# Altium integrated library TI Interface Display.IntLib: 133 symbols (part 16 of 16)
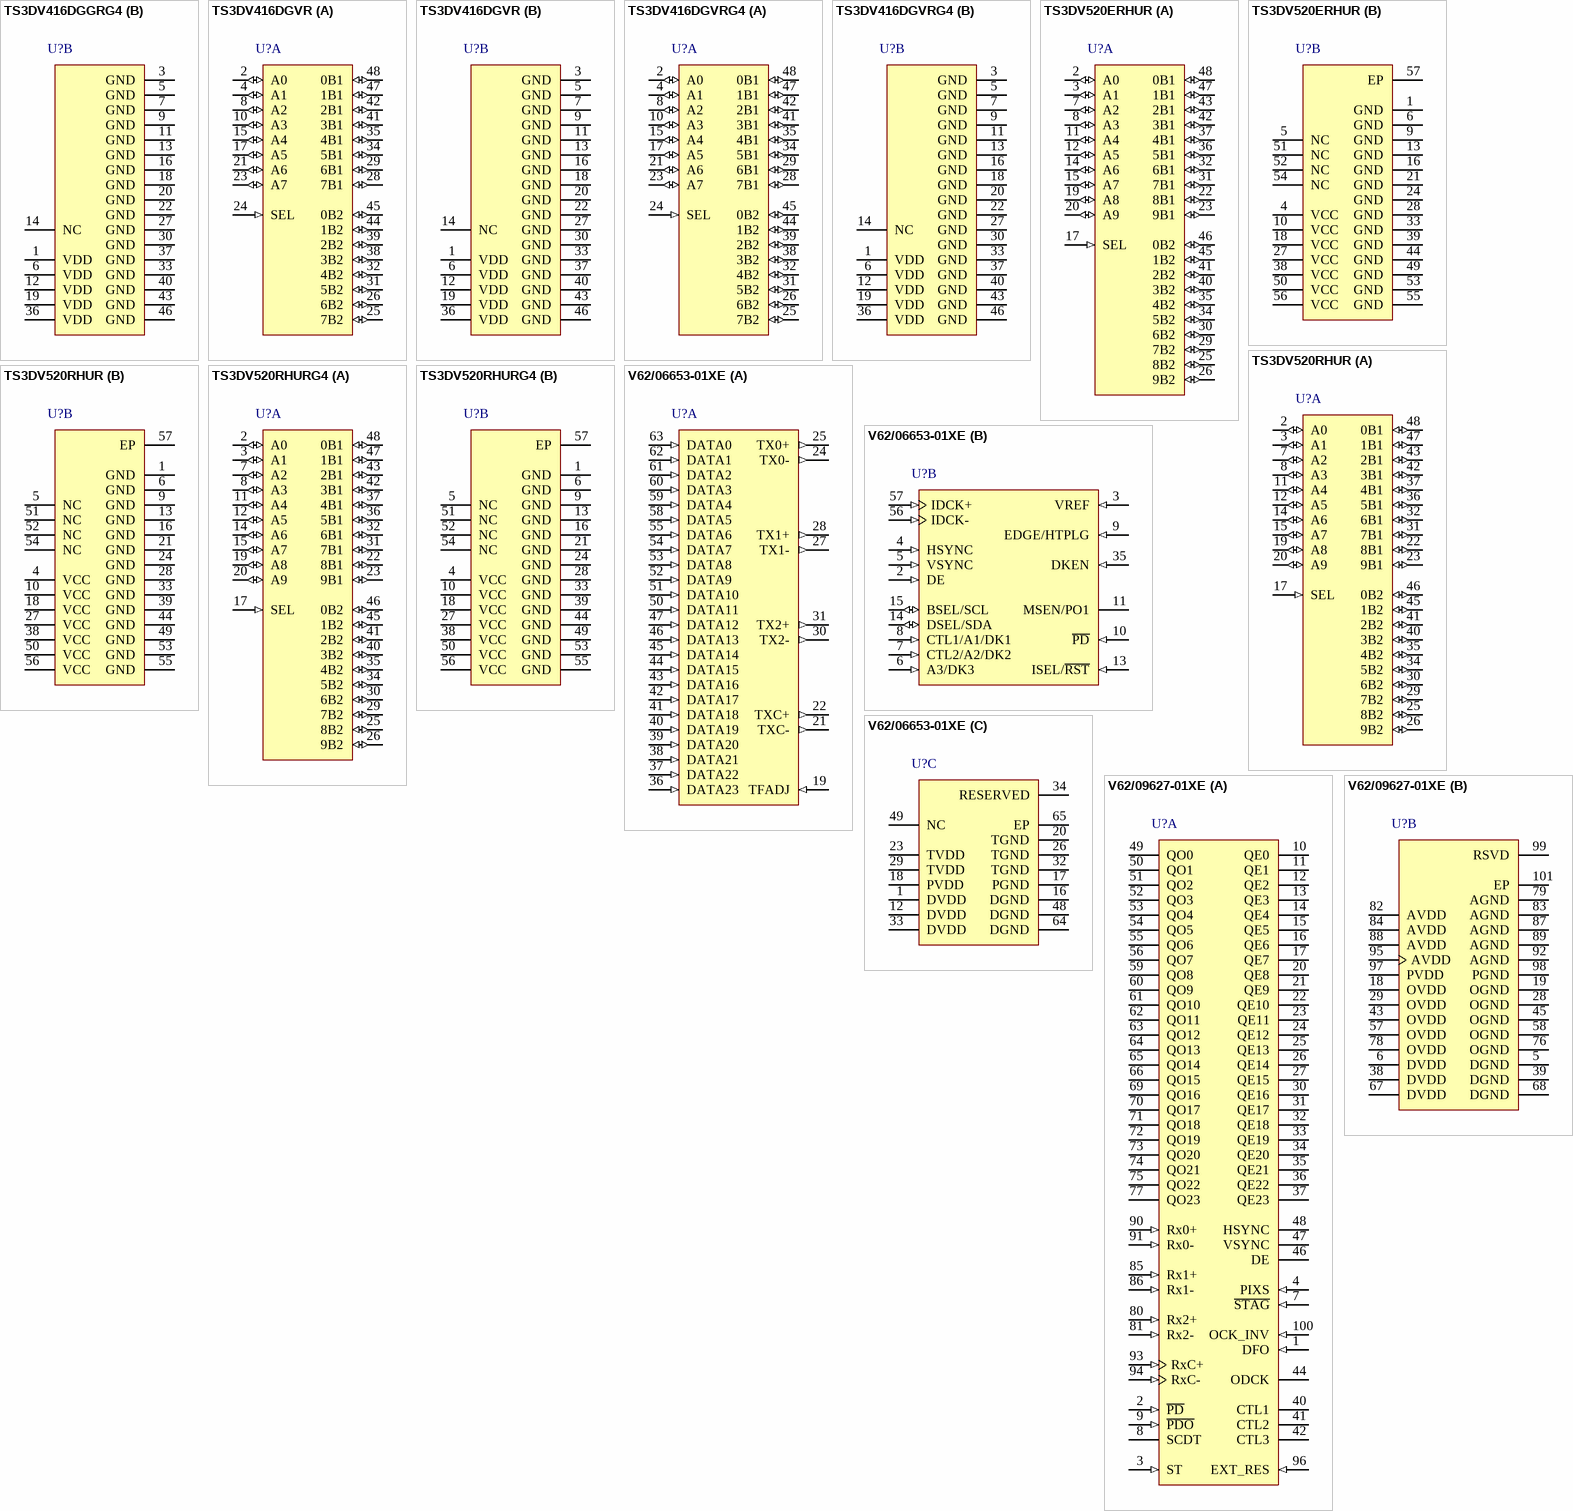
[diagram p29: symbols TS3DV416DGGRG4 to V62/09627-01XE]

## TS3DV416DGVRG4
designator U?
4-Channel Differential 8:16 Multiplexer Switch for DVI / HDMI Applications, -40 to +85 degC, 48-pin TVSOP (DGV), Green (RoHS & no Sb/Br); Manufacturer: Texas Instruments; PartNumber: TS3DV416DGVRG4; SubFamily: DVI/HDMI Repeater/Switch; DatasheetVersion: SCDS198C; PackageVersion: revE, Aug-2000; PackageReference: DGV48; PackageDescription: 48-Pin Thin Shrink Small Outline Package 0.4 mm Pitch; Supplier 1: Digi-Key; Supplier Part Number 1: TS3DV416DGVRG4-ND; Supplier 2: Newark; Supplier Part Number 2: 46M9584; Supplier 3: Mouser; Supplier Part Number 3: 595-TS3DV416DGVRG4; Eco-Plan: Green (RoHS & no Sb/Br); Mounting Technology: Surface Mount; Code_JEDEC: MO-153; ComponentLink1Description: Datasheet; ComponentLink1URL: http://www.ti.com/general/docs/lit/getliterature.tsp?genericPartNumber=TS3DV416&fileType=pdf; ComponentLink2Description: URL Link1; ComponentLink2URL: SamplesURL:http://www.ti.com/product/ts3dv416#samples
footprint DGV48_N (TSSOP, 48-Leads, Body 9.7x4.4mm, Pitch 0.4mm, IPC Medium Density)
footprint DGV48_L (TSSOP, 48-Leads, Body 9.7x4.4mm, Pitch 0.4mm, IPC High Density)
footprint DGV48_M (TSSOP, 48-Leads, Body 9.7x4.4mm, Pitch 0.4mm, IPC Low Density)
part A pins: 2 A0 (io) "Data I/O", 4 A1 (io) "Data I/O", 8 A2 (io) "Data I/O", 10 A3 (io) "Data I/O", 15 A4 (io) "Data I/O", 17 A5 (io) "Data I/O", 21 A6 (io) "Data I/O", 23 A7 (io) "Data I/O", 24 SEL (in) "Select input", 25 7B2 (io) "Data I/O", 26 6B2 (io) "Data I/O", 28 7B1 (io) "Data I/O", 29 6B1 (io) "Data I/O", 31 5B2 (io) "Data I/O", 32 4B2 (io) "Data I/O", 34 5B1 (io) "Data I/O", 35 4B1 (io) "Data I/O", 38 3B2 (io) "Data I/O", 39 2B2 (io) "Data I/O", 41 3B1 (io) "Data I/O", 42 2B1 (io) "Data I/O", 44 1B2 (io) "Data I/O", 45 0B2 (io) "Data I/O", 47 1B1 (io) "Data I/O", 48 0B1 (io) "Data I/O"
part B pins: 1 VDD (power), 3 GND (power) "Ground", 5 GND (power) "Ground", 6 VDD (power), 7 GND (power) "Ground", 9 GND (power) "Ground", 11 GND (power) "Ground", 12 VDD (power), 13 GND (power) "Ground", 14 NC "No Connect", 16 GND (power) "Ground", 18 GND (power) "Ground", 19 VDD (power), 20 GND (power) "Ground", 22 GND (power) "Ground", 27 GND (power) "Ground", 30 GND (power) "Ground", 33 GND (power) "Ground", 36 VDD (power), 37 GND (power) "Ground", 40 GND (power) "Ground", 43 GND (power) "Ground", 46 GND (power) "Ground"

## TS3DV520ERHUR
designator U?
5-Channels Differential 10:20 Multiplexer Switch for DVI/HDMI Applications, -40 to +85 degC, 56-pin QFN (RHU), Green (RoHS & no Sb/Br); Manufacturer: Texas Instruments; PartNumber: TS3DV520ERHUR; SubFamily: DVI/HDMI Repeater/Switch; DatasheetVersion: SCDS197D; PackageVersion: revB, May-2010; PackageReference: RHU56-8400X2400TP; PackageDescription: 56-Leads Plastic Quad Flatpack No-Lead, 5 x 11 x 0.75 mm Body, 0.5 mm Pitch, Exposed Pad; Supplier 1: Digi-Key; Supplier Part Number 1: 296-22730-2-ND; Supplier 2: Digi-Key; Supplier Part Number 2: 296-22730-1-ND; Supplier 3: Digi-Key; Supplier Part Number 3: 296-22730-6-ND; Supplier 4: Newark; Supplier Part Number 4: 18M3260; Supplier 5: Mouser; Supplier Part Number 5: 595-TS3DV520ERHUR; Eco-Plan: Green (RoHS & no Sb/Br); Mounting Technology: Surface Mount; Code_JEDEC: MO-220; ComponentLink1Description: Datasheet; ComponentLink1URL: http://www.ti.com/general/docs/lit/getliterature.tsp?genericPartNumber=TS3DV520&fileType=pdf; ComponentLink2Description: URL Link1; ComponentLink2URL: SamplesURL:http://www.ti.com/product/ts3dv520#samples
footprint RHU56-8400X2400TP (QFN, 56-Leads, Body 5x11mm, Pitch 0.5mm, Thermal Pad 2.5x8.5mm, TI Recommended)
part A pins: 2 A0 (io) "Data I/O", 3 A1 (io) "Data I/O", 7 A2 (io) "Data I/O", 8 A3 (io) "Data I/O", 11 A4 (io) "Data I/O", 12 A5 (io) "Data I/O", 14 A6 (io) "Data I/O", 15 A7 (io) "Data I/O", 17 SEL (in) "Select input", 19 A8 (io) "Data I/O", 20 A9 (io) "Data I/O", 22 8B1 (io) "Data I/O", 23 9B1 (io) "Data I/O", 25 8B2 (io) "Data I/O", 26 9B2 (io) "Data I/O", 29 7B2 (io) "Data I/O", 30 6B2 (io) "Data I/O", 31 7B1 (io) "Data I/O", 32 6B1 (io) "Data I/O", 34 5B2 (io) "Data I/O", 35 4B2 (io) "Data I/O", 36 5B1 (io) "Data I/O", 37 4B1 (io) "Data I/O", 40 3B2 (io) "Data I/O", 41 2B2 (io) "Data I/O", 42 3B1 (io) "Data I/O", 43 2B1 (io) "Data I/O", 45 1B2 (io) "Data I/O", 46 0B2 (io) "Data I/O", 47 1B1 (io) "Data I/O", 48 0B1 (io) "Data I/O"
part B pins: 1 GND (power) "Ground", 4 VCC (power) "Power supply", 5 NC "No internal connection", 6 GND (power) "Ground", 9 GND (power) "Ground", 10 VCC (power) "Power supply", 13 GND (power) "Ground", 16 GND (power) "Ground", 18 VCC (power) "Power supply", 21 GND (power) "Ground", 24 GND (power) "Ground", 27 VCC (power) "Power supply", 28 GND (power) "Ground", 33 GND (power) "Ground", 38 VCC (power) "Power supply", 39 GND (power) "Ground", 44 GND (power) "Ground", 49 GND (power) "Ground", 50 VCC (power) "Power supply", 51 NC "No internal connection", 52 NC "No internal connection", 53 GND (power) "Ground", 54 NC "No internal connection", 55 GND (power) "Ground", 56 VCC (power) "Power supply", 57 EP "Exposed Thermal Pad"

## TS3DV520RHUR
designator U?
5-Channels Differential 10:20 Multiplexer Switch for DVI / HDMI Applications, -40 to +85 degC, 56-pin QFN (RHU), Green (RoHS & no Sb/Br); Manufacturer: Texas Instruments; PartNumber: TS3DV520RHUR; SubFamily: DVI/HDMI Repeater/Switch; DatasheetVersion: SCDS197D; PackageVersion: revB, May-2010; PackageReference: RHU56-8400X2400TP; PackageDescription: 56-Leads Plastic Quad Flatpack No-Lead, 5 x 11 x 0.75 mm Body, 0.5 mm Pitch, Exposed Pad; Supplier 1: Digi-Key; Supplier Part Number 1: 296-21177-2-ND; Supplier 2: Digi-Key; Supplier Part Number 2: 296-21177-1-ND; Supplier 3: Digi-Key; Supplier Part Number 3: 296-21177-6-ND; Supplier 4: Newark; Supplier Part Number 4: 70K5825; Supplier 5: Mouser; Supplier Part Number 5: 595-TS3DV520RHUR; Eco-Plan: Green (RoHS & no Sb/Br); Mounting Technology: Surface Mount; Code_JEDEC: MO-220; ComponentLink1Description: Datasheet; ComponentLink1URL: http://www.ti.com/general/docs/lit/getliterature.tsp?genericPartNumber=TS3DV520&fileType=pdf; ComponentLink2Description: URL Link1; ComponentLink2URL: SamplesURL:http://www.ti.com/product/ts3dv520#samples
footprint RHU56-8400X2400TP (QFN, 56-Leads, Body 5x11mm, Pitch 0.5mm, Thermal Pad 2.5x8.5mm, TI Recommended)
part A pins: 2 A0 (io) "Data I/O", 3 A1 (io) "Data I/O", 7 A2 (io) "Data I/O", 8 A3 (io) "Data I/O", 11 A4 (io) "Data I/O", 12 A5 (io) "Data I/O", 14 A6 (io) "Data I/O", 15 A7 (io) "Data I/O", 17 SEL (in) "Select input", 19 A8 (io) "Data I/O", 20 A9 (io) "Data I/O", 22 8B1 (io) "Data I/O", 23 9B1 (io) "Data I/O", 25 8B2 (io) "Data I/O", 26 9B2 (io) "Data I/O", 29 7B2 (io) "Data I/O", 30 6B2 (io) "Data I/O", 31 7B1 (io) "Data I/O", 32 6B1 (io) "Data I/O", 34 5B2 (io) "Data I/O", 35 4B2 (io) "Data I/O", 36 5B1 (io) "Data I/O", 37 4B1 (io) "Data I/O", 40 3B2 (io) "Data I/O", 41 2B2 (io) "Data I/O", 42 3B1 (io) "Data I/O", 43 2B1 (io) "Data I/O", 45 1B2 (io) "Data I/O", 46 0B2 (io) "Data I/O", 47 1B1 (io) "Data I/O", 48 0B1 (io) "Data I/O"
part B pins: 1 GND (power) "Ground", 4 VCC (power) "Power supply", 5 NC "No internal connection", 6 GND (power) "Ground", 9 GND (power) "Ground", 10 VCC (power) "Power supply", 13 GND (power) "Ground", 16 GND (power) "Ground", 18 VCC (power) "Power supply", 21 GND (power) "Ground", 24 GND (power) "Ground", 27 VCC (power) "Power supply", 28 GND (power) "Ground", 33 GND (power) "Ground", 38 VCC (power) "Power supply", 39 GND (power) "Ground", 44 GND (power) "Ground", 49 GND (power) "Ground", 50 VCC (power) "Power supply", 51 NC "No internal connection", 52 NC "No internal connection", 53 GND (power) "Ground", 54 NC "No internal connection", 55 GND (power) "Ground", 56 VCC (power) "Power supply", 57 EP "Exposed Thermal Pad"

## TS3DV520RHURG4
designator U?
5-Channels Differential 10:20 Multiplexer Switch for DVI / HDMI Applications, -40 to +85 degC, 56-pin QFN (RHU), Green (RoHS & no Sb/Br); Manufacturer: Texas Instruments; PartNumber: TS3DV520RHURG4; SubFamily: DVI/HDMI Repeater/Switch; DatasheetVersion: SCDS197D; PackageVersion: revB, May-2010; PackageReference: RHU56-8400X2400TP; PackageDescription: 56-Leads Plastic Quad Flatpack No-Lead, 5 x 11 x 0.75 mm Body, 0.5 mm Pitch, Exposed Pad; Supplier 1: Digi-Key; Supplier Part Number 1: TS3DV520RHURG4-ND; Supplier 2: Newark; Supplier Part Number 2: 46M9585; Supplier 3: Mouser; Supplier Part Number 3: 595-TS3DV520RHURG4; Eco-Plan: Green (RoHS & no Sb/Br); Mounting Technology: Surface Mount; Code_JEDEC: MO-220; ComponentLink1Description: Datasheet; ComponentLink1URL: http://www.ti.com/general/docs/lit/getliterature.tsp?genericPartNumber=TS3DV520&fileType=pdf; ComponentLink2Description: URL Link1; ComponentLink2URL: SamplesURL:http://www.ti.com/product/ts3dv520#samples
footprint RHU56-8400X2400TP (QFN, 56-Leads, Body 5x11mm, Pitch 0.5mm, Thermal Pad 2.5x8.5mm, TI Recommended)
part A pins: 2 A0 (io) "Data I/O", 3 A1 (io) "Data I/O", 7 A2 (io) "Data I/O", 8 A3 (io) "Data I/O", 11 A4 (io) "Data I/O", 12 A5 (io) "Data I/O", 14 A6 (io) "Data I/O", 15 A7 (io) "Data I/O", 17 SEL (in) "Select input", 19 A8 (io) "Data I/O", 20 A9 (io) "Data I/O", 22 8B1 (io) "Data I/O", 23 9B1 (io) "Data I/O", 25 8B2 (io) "Data I/O", 26 9B2 (io) "Data I/O", 29 7B2 (io) "Data I/O", 30 6B2 (io) "Data I/O", 31 7B1 (io) "Data I/O", 32 6B1 (io) "Data I/O", 34 5B2 (io) "Data I/O", 35 4B2 (io) "Data I/O", 36 5B1 (io) "Data I/O", 37 4B1 (io) "Data I/O", 40 3B2 (io) "Data I/O", 41 2B2 (io) "Data I/O", 42 3B1 (io) "Data I/O", 43 2B1 (io) "Data I/O", 45 1B2 (io) "Data I/O", 46 0B2 (io) "Data I/O", 47 1B1 (io) "Data I/O", 48 0B1 (io) "Data I/O"
part B pins: 1 GND (power) "Ground", 4 VCC (power) "Power supply", 5 NC "No internal connection", 6 GND (power) "Ground", 9 GND (power) "Ground", 10 VCC (power) "Power supply", 13 GND (power) "Ground", 16 GND (power) "Ground", 18 VCC (power) "Power supply", 21 GND (power) "Ground", 24 GND (power) "Ground", 27 VCC (power) "Power supply", 28 GND (power) "Ground", 33 GND (power) "Ground", 38 VCC (power) "Power supply", 39 GND (power) "Ground", 44 GND (power) "Ground", 49 GND (power) "Ground", 50 VCC (power) "Power supply", 51 NC "No internal connection", 52 NC "No internal connection", 53 GND (power) "Ground", 54 NC "No internal connection", 55 GND (power) "Ground", 56 VCC (power) "Power supply", 57 EP "Exposed Thermal Pad"

## V62/06653-01XE
designator U?
Enhanced Product Panelbus™ Digital Transmitter with 3 Data Channels, 3.3 V, -55 to +125 degC, 64-pin HTQFP (PAP), Green (RoHS & no Sb/Br); Manufacturer: Texas Instruments; PartNumber: V62/06653-01XE; Number of Parallel Inputs: 24; PLL Frequency(MHz): 25 to 165; Rating: HiRel Enhanced Product; Serial Data Transmitter Channels: 3; SubFamily: PanelBus (DVI); Supply Voltage(s)(V): 3.3; Transmitter: TRUE; DatasheetVersion: SGLS344A; PackageVersion: revC, Aug-2003; PackageReference: PAP64-4650X4650TP; PackageDescription: 64-Pin Plastic Quad Flat Pack, 10 x 10 mm Body, 0.5 mm Pitch, Exposed Pad; Supplier 1: Newark; Supplier Part Number 1: 46M1864; Supplier 2: Mouser; Supplier Part Number 2: 595-V62/06653-01XE; Eco-Plan: Green (RoHS & no Sb/Br); Mounting Technology: Surface Mount; Code_JEDEC: MS-026; ComponentLink1Description: Datasheet; ComponentLink1URL: http://www.ti.com/general/docs/lit/getliterature.tsp?genericPartNumber=TFP410-EP&fileType=pdf; ComponentLink2Description: URL Link1; ComponentLink2URL: SamplesURL:http://www.ti.com/product/tfp410-ep#samples
footprint PAP64-4650X4650TP_N (Thin QFP, 64-Leads, Body 10x10mm, Pitch 0.5mm, Thermal Pad 5x5mm, IPC Medium Density)
footprint PAP64-4650X4650TP_L (Thin QFP, 64-Leads, Body 10x10mm, Pitch 0.5mm, Thermal Pad 5x5mm, IPC High Density)
footprint PAP64-4650X4650TP_M (Thin QFP, 64-Leads, Body 10x10mm, Pitch 0.5mm, Thermal Pad 5x5mm, IPC Low Density)
part A pins: 19 TFADJ (in) "Full-scale adjust. This pin controls the amplitude of the DVI output voltage swing, determined by the value of the pullup resistor RTFADJ connected to TVDD.", 21 TXC- (out) "DVI differential output clock", 22 TXC+ (out) "DVI differential output clock", 24 TX0- (out) "Channel 0 DVI differential output pair. TX0+/- transmits the 8-bit blue pixel data during active video and HSYNC and VSYNC during the blanking interval.", 25 TX0+ (out) "Channel 0 DVI differential output pair. TX0+/- transmits the 8-bit blue pixel data during active video and HSYNC and VSYNC during the blanking interval.", 27 TX1- (out) "Channel 1 DVI differential output pair. TX1+/- transmits the 8-bit green pixel data during active video and CTL[1] during the blanking interval.", 28 TX1+ (out) "Channel 1 DVI differential output pair. TX1+/- transmits the 8-bit green pixel data during active video and CTL[1] during the blanking interval.", 30 TX2- (out) "Channel 2 DVI differential output pair. TX2+/- transmits the 8-bit red pixel data during active video and CTL[3:2] during the blanking interval.", 31 TX2+ (out) "Channel 2 DVI differential output pair. TX2+/- transmits the 8-bit red pixel data during active video and CTL[3:2] during the blanking interval.", 36 DATA23 (in) "Upper 12 bits of the 24-bit pixel bus In 24-bit, single-edge input mode (BSEL = high), this bus inputs the top half of the 24-bit pixel bus.[see datasheet]", 37 DATA22 (in) "Upper 12 bits of the 24-bit pixel bus In 24-bit, single-edge input mode (BSEL = high), this bus inputs the top half of the 24-bit pixel bus.[see datasheet]", 38 DATA21 (in) "Upper 12 bits of the 24-bit pixel bus In 24-bit, single-edge input mode (BSEL = high), this bus inputs the top half of the 24-bit pixel bus.[see datasheet]", 39 DATA20 (in) "Upper 12 bits of the 24-bit pixel bus In 24-bit, single-edge input mode (BSEL = high), this bus inputs the top half of the 24-bit pixel bus.[see datasheet]", 40 DATA19 (in) "Upper 12 bits of the 24-bit pixel bus In 24-bit, single-edge input mode (BSEL = high), this bus inputs the top half of the 24-bit pixel bus.[see datasheet]", 41 DATA18 (in) "Upper 12 bits of the 24-bit pixel bus In 24-bit, single-edge input mode (BSEL = high), this bus inputs the top half of the 24-bit pixel bus.[see datasheet]", 42 DATA17 (in) "Upper 12 bits of the 24-bit pixel bus In 24-bit, single-edge input mode (BSEL = high), this bus inputs the top half of the 24-bit pixel bus.[see datasheet]", 43 DATA16 (in) "Upper 12 bits of the 24-bit pixel bus In 24-bit, single-edge input mode (BSEL = high), this bus inputs the top half of the 24-bit pixel bus.[see datasheet]", 44 DATA15 (in) "Upper 12 bits of the 24-bit pixel bus In 24-bit, single-edge input mode (BSEL = high), this bus inputs the top half of the 24-bit pixel bus.[see datasheet]", 45 DATA14 (in) "Upper 12 bits of the 24-bit pixel bus In 24-bit, single-edge input mode (BSEL = high), this bus inputs the top half of the 24-bit pixel bus.[see datasheet]", 46 DATA13 (in) "Upper 12 bits of the 24-bit pixel bus In 24-bit, single-edge input mode (BSEL = high), this bus inputs the top half of the 24-bit pixel bus.[see datasheet]", 47 DATA12 (in) "Upper 12 bits of the 24-bit pixel bus In 24-bit, single-edge input mode (BSEL = high), this bus inputs the top half of the 24-bit pixel bus.[see datasheet]", 50 DATA11 (in) "Lower 12 bits of the 24-bit pixel bus/12-bit pixel bus input In 24-bit, single-edge input mode (BSEL = high), this bus inputs the bottom half of the 24-bit pixel bus.[see datasheet]", 51 DATA10 (in) "Lower 12 bits of the 24-bit pixel bus/12-bit pixel bus input In 24-bit, single-edge input mode (BSEL = high), this bus inputs the bottom half of the 24-bit pixel bus.[see datasheet]", 52 DATA9 (in) "Lower 12 bits of the 24-bit pixel bus/12-bit pixel bus input In 24-bit, single-edge input mode (BSEL = high), this bus inputs the bottom half of the 24-bit pixel bus.[see datasheet]", 53 DATA8 (in) "Lower 12 bits of the 24-bit pixel bus/12-bit pixel bus input In 24-bit, single-edge input mode (BSEL = high), this bus inputs the bottom half of the 24-bit pixel bus.[see datasheet]", 54 DATA7 (in) "Lower 12 bits of the 24-bit pixel bus/12-bit pixel bus input In 24-bit, single-edge input mode (BSEL = high), this bus inputs the bottom half of the 24-bit pixel bus.[see datasheet]", 55 DATA6 (in) "Lower 12 bits of the 24-bit pixel bus/12-bit pixel bus input In 24-bit, single-edge input mode (BSEL = high), this bus inputs the bottom half of the 24-bit pixel bus.[see datasheet]", 58 DATA5 (in) "Lower 12 bits of the 24-bit pixel bus/12-bit pixel bus input In 24-bit, single-edge input mode (BSEL = high), this bus inputs the bottom half of the 24-bit pixel bus.[see datasheet]", 59 DATA4 (in) "Lower 12 bits of the 24-bit pixel bus/12-bit pixel bus input In 24-bit, single-edge input mode (BSEL = high), this bus inputs the bottom half of the 24-bit pixel bus.[see datasheet]", 60 DATA3 (in) "Lower 12 bits of the 24-bit pixel bus/12-bit pixel bus input In 24-bit, single-edge input mode (BSEL = high), this bus inputs the bottom half of the 24-bit pixel bus.[see datasheet]", 61 DATA2 (in) "Lower 12 bits of the 24-bit pixel bus/12-bit pixel bus input In 24-bit, single-edge input mode (BSEL = high), this bus inputs the bottom half of the 24-bit pixel bus.[see datasheet]", 62 DATA1 (in) "Lower 12 bits of the 24-bit pixel bus/12-bit pixel bus input In 24-bit, single-edge input mode (BSEL = high), this bus inputs the bottom half of the 24-bit pixel bus.[see datasheet]", 63 DATA0 (in) "Lower 12 bits of the 24-bit pixel bus/12-bit pixel bus input In 24-bit, single-edge input mode (BSEL = high), this bus inputs the bottom half of the 24-bit pixel bus.[see datasheet]"
part B pins: 2 DE (in) "Data enable. As defined in DVI 1.0 specification, the DE signal allows the transmitter to encode pixel data or control data on any given input clock cycle.[see datasheet]", 3 VREF (in) "Input reference voltage. Selects the swing range of the digital data inputs (DATA[23:0], DE, HSYNC,VSYNC, and IDCK+/-).[see datasheet]", 4 HSYNC (in) "Horizontal sync input", 5 VSYNC (in) "Vertical sync input", 6 A3/DK3 (in) "The operation of these three multifunction inputs depends on the settings of the ISEL (pin 13) and DKEN (pin 35) inputs. All three inputs support 3.3-V CMOS signal levels and contain weak pulldown resistors so that, if left (See Datasheet)", 7 CTL2/A2/DK2 (in) "The operation of these three multifunction inputs depends on the settings of the ISEL (pin 13) and DKEN (pin 35) inputs. All three inputs support 3.3-V CMOS signal levels and contain weak pulldown resistors so that, if left (See Datasheet)", 8 CTL1/A1/DK1 (in) "The operation of these three multifunction inputs depends on the settings of the ISEL (pin 13) and DKEN (pin 35) inputs. All three inputs support 3.3-V CMOS signal levels and contain weak pulldown resistors so that, if left (See Datasheet)", 9 EDGE/HTPLG (in) "Edge select/hot plug input. The operation of this pin depends on whether the I2C interface is enabled or disabled. This input is 3.3-V tolerant only.[see datasheet]", 10 ~{PD} (in) "Power down (active low). In the power-down state, only the digital I/O buffers and I2C interface remain active.[see datasheet]", 11 MSEN/PO1 (oc) "Monitor sense/programmable output 1. The operation of this pin depends on whether the I2C interface is enabled or disabled.[see datasheet]", 13 ISEL/~{RST} (in) "I2C interface select/I2C reset (active low, asynchronous) If ISEL is high, the I2C interface is active. Default values for the I2C registers can be found in the I2C register descriptions    section[seedatasheet]", 14 DSEL/SDA (io) "DSEL/I2C data. The operation of this pin depends on whether the I2C interface is enabled or disabled. This pin is only 3.3-V tolerant.[see datasheet]", 15 BSEL/SCL (io) "Input bus select/I2C clock input. The operation of this pin depends on whether the I2C interface is enabled or disabled. This pin is only 3.3-V tolerant.[see datasheet]", 35 DKEN (in) "Data deskew enable. The deskew function can be enabled either through I2C or by this pin when I2C is disabled.When deskew is enabled, the input clock to data setup/hold time can be adjusted in discrete trim increments.[see (See Datasheet)", 56 IDCK- (in) "Differential clock input. The TFP410 supports both single-ended and fully differential clock input modes.[see datasheet]", 57 IDCK+ (in) "Differential clock input. The TFP410 supports both single-ended and fully differential clock input modes.[see datasheet]"
part C pins: 1 DVDD (power) "Digital power supply. Must be set to 3.3-V nominal.", 12 DVDD (power) "Digital power supply. Must be set to 3.3-V nominal.", 16 DGND (power) "Digital ground", 17 PGND (power) "PLL ground", 18 PVDD (power) "PLL power supply. Must be set to 3.3-V nominal.", 20 TGND (power) "Transmitter differential output driver ground", 23 TVDD (power) "Transmitter differential output driver power supply. Must be set to 3.3-V nominal.", 26 TGND (power) "Transmitter differential output driver ground", 29 TVDD (power) "Transmitter differential output driver power supply. Must be set to 3.3-V nominal.", 32 TGND (power) "Transmitter differential output driver ground", 33 DVDD (power) "Digital power supply. Must be set to 3.3-V nominal.", 34 RESERVED "This pin is reserved and must be tied to GND for normal operation.", 48 DGND (power) "Digital ground", 49 NC "No connection required. If connected, tie high.", 64 DGND (power) "Digital ground", 65 EP "Exposed Pad"

## V62/09627-01XE
designator U?
Enhanced Product PanelBus DVI Receiver 165 MHz, HSYNC Fix with 3 Data Channels, 3.3 V,-55 to +125 degC, 100-pin HTQFP (PZP), Green (RoHS & no Sb/Br); Manufacturer: Texas Instruments; PartNumber: V62/09627-01XE; Number of Parallel Outputs: 48; PLL Frequency(MHz): 25 to 165; Rating: HiRel Enhanced Product; Receiver: TRUE; Serial Data Receiver Channels: 3; SubFamily: PanelBus (DVI); Supply Voltage(s)(V): 3.3; DatasheetVersion: SLDS160A; PackageVersion: revC, Sep-2011; PackageReference: PZP100-4700X4700TP; PackageDescription: 100-Pin Plastic Quad Flat Pack PowerPAD; Eco-Plan: Green (RoHS & no Sb/Br); Mounting Technology: Surface Mount; Code_JEDEC: MS-026; ComponentLink1Description: Datasheet; ComponentLink1URL: http://www.ti.com/general/docs/lit/getliterature.tsp?genericPartNumber=TFP401A-EP&fileType=pdf; ComponentLink2Description: URL Link1; ComponentLink2URL: SamplesURL:http://www.ti.com/product/tfp401a-ep#samples
footprint PZP100-4700X4700TP_N (Thin QFP, 100-Leads, Body 14x14mm, Pitch 0.5mm, Thermal Pad 5.2x5.2mm, IPC Medium Density)
footprint PZP100-4700X4700TP_L (Thin QFP, 100-Leads, Body 14x14mm, Pitch 0.5mm, Thermal Pad 5.2x5.2mm, IPC High Density)
footprint PZP100-4700X4700TP_M (Thin QFP, 100-Leads, Body 14x14mm, Pitch 0.5mm, Thermal Pad 5.2x5.2mm, IPC Low Density)
part A pins: 1 DFO (in) "Output clock data format - Controls the output clock (ODCK) format for either TFT or DSTNpanel support. For TFT support ODCK clock runs continuously. For DSTN support ODCK only clocks when DE is high, otherwise ODCK is held (See Datasheet)", 2 ~{PD} (in) "Power down - An active low signal that controls the TFP401A power-down state. During power down all output buffers are switched to a high impedance state. All analog circuits arepowered down and all inputs are disabled, (See Datasheet)", 3 ST (in) "Output drive strength select - Selects output drive strength for high or low current drive. (See dc specifications for IOH and IOL vs ST state).High : High drive strength Low : Low drive strength", 4 PIXS (in) "Pixel select - Selects between one or two pixels per clock output modes. During the 2-pixel/clock mode, both even pixels, QE[23:0], and odd pixels, QO[23:0], are output in tandem on a given clock cycle. During 1-pixel/clock, (See Datasheet)", 7 ~{STAG} (in) "Staggered pixel select - An active low signal used in the 2-pixel/clock pixel mode(PIXS = high). Time staggers the even and odd pixel outputs to reduce ground bounce. Normal operation outputs the odd and even pixels (See Datasheet)", 8 SCDT (hiz) "Sync detect - Output to signal when the link is active or inactive. The link is considered to be active when DE is actively switching. The TFP401A monitors the state DE to determine link activity. SCDT can be tied externally (See Datasheet)", 9 ~{PDO} (in) "Output drive power down - An active low signal that controls the power-down state of the output drivers. During output drive power down, the output drivers (except SCDT and CTL1)are driven to a high impedance state. When PDO (See Datasheet)", 10 QE0 (hiz) "Even green pixel output - Output for even and odd green pixels when in 1-pixel/clock mode.Output for even only green pixel when in 2-pixel/clock mode. Output data is synchronized to the output data clock, ODCK.", 11 QE1 (hiz) "Even green pixel output - Output for even and odd green pixels when in 1-pixel/clock mode.Output for even only green pixel when in 2-pixel/clock mode. Output data is synchronized to the output data clock, ODCK.", 12 QE2 (hiz) "Even green pixel output - Output for even and odd green pixels when in 1-pixel/clock mode.Output for even only green pixel when in 2-pixel/clock mode. Output data is synchronized to the output data clock, ODCK.", 13 QE3 (hiz) "Even green pixel output - Output for even and odd green pixels when in 1-pixel/clock mode.Output for even only green pixel when in 2-pixel/clock mode. Output data is synchronized to the output data clock, ODCK.", 14 QE4 (hiz) "Even green pixel output - Output for even and odd green pixels when in 1-pixel/clock mode.Output for even only green pixel when in 2-pixel/clock mode. Output data is synchronized to the output data clock, ODCK.", 15 QE5 (hiz) "Even green pixel output - Output for even and odd green pixels when in 1-pixel/clock mode.Output for even only green pixel when in 2-pixel/clock mode. Output data is synchronized to the output data clock, ODCK.", 16 QE6 (hiz) "Even green pixel output - Output for even and odd green pixels when in 1-pixel/clock mode.Output for even only green pixel when in 2-pixel/clock mode. Output data is synchronized to the output data clock, ODCK.", 17 QE7 (hiz) "Even green pixel output - Output for even and odd green pixels when in 1-pixel/clock mode.Output for even only green pixel when in 2-pixel/clock mode. Output data is synchronized to the output data clock, ODCK.", 20 QE8 (hiz) "Even green pixel output - Output for even and odd green pixels when in 1-pixel/clock mode.Output for even only green pixel when in 2-pixel/clock mode. Output data is synchronized to the output data clock, ODCK.", 21 QE9 (hiz) "Even green pixel output - Output for even and odd green pixels when in 1-pixel/clock mode.Output for even only green pixel when in 2-pixel/clock mode. Output data is synchronized to the output data clock, ODCK.", 22 QE10 (hiz) "Even green pixel output - Output for even and odd green pixels when in 1-pixel/clock mode.Output for even only green pixel when in 2-pixel/clock mode. Output data is synchronized to the output data clock, ODCK.", 23 QE11 (hiz) "Even green pixel output - Output for even and odd green pixels when in 1-pixel/clock mode.Output for even only green pixel when in 2-pixel/clock mode. Output data is synchronized to the output data clock, ODCK.", 24 QE12 (hiz) "Even green pixel output - Output for even and odd green pixels when in 1-pixel/clock mode.Output for even only green pixel when in 2-pixel/clock mode. Output data is synchronized to the output data clock, ODCK.", 25 QE13 (hiz) "Even green pixel output - Output for even and odd green pixels when in 1-pixel/clock mode.Output for even only green pixel when in 2-pixel/clock mode. Output data is synchronized to the output data clock, ODCK.", 26 QE14 (hiz) "Even green pixel output - Output for even and odd green pixels when in 1-pixel/clock mode.Output for even only green pixel when in 2-pixel/clock mode. Output data is synchronized to the output data clock, ODCK.", 27 QE15 (hiz) "Even green pixel output - Output for even and odd green pixels when in 1-pixel/clock mode.Output for even only green pixel when in 2-pixel/clock mode. Output data is synchronized to the output data clock, ODCK.", 30 QE16 (hiz) "Even green pixel output - Output for even and odd green pixels when in 1-pixel/clock mode.Output for even only green pixel when in 2-pixel/clock mode. Output data is synchronized to the output data clock, ODCK.", 31 QE17 (hiz) "Even green pixel output - Output for even and odd green pixels when in 1-pixel/clock mode.Output for even only green pixel when in 2-pixel/clock mode. Output data is synchronized to the output data clock, ODCK.", 32 QE18 (hiz) "Even green pixel output - Output for even and odd green pixels when in 1-pixel/clock mode.Output for even only green pixel when in 2-pixel/clock mode. Output data is synchronized to the output data clock, ODCK.", 33 QE19 (hiz) "Even green pixel output - Output for even and odd green pixels when in 1-pixel/clock mode.Output for even only green pixel when in 2-pixel/clock mode. Output data is synchronized to the output data clock, ODCK.", 34 QE20 (hiz) "Even green pixel output - Output for even and odd green pixels when in 1-pixel/clock mode.Output for even only green pixel when in 2-pixel/clock mode. Output data is synchronized to the output data clock, ODCK.", 35 QE21 (hiz) "Even green pixel output - Output for even and odd green pixels when in 1-pixel/clock mode.Output for even only green pixel when in 2-pixel/clock mode. Output data is synchronized to the output data clock, ODCK.", 36 QE22 (hiz) "Even green pixel output - Output for even and odd green pixels when in 1-pixel/clock mode.Output for even only green pixel when in 2-pixel/clock mode. Output data is synchronized to the output data clock, ODCK.", 37 QE23 (hiz) "Even green pixel output - Output for even and odd green pixels when in 1-pixel/clock mode.Output for even only green pixel when in 2-pixel/clock mode. Output data is synchronized to the output data clock, ODCK.", 40 CTL1 (hiz) "General-purpose control signals - Used for user defined control. CTL1 is not powered-down via PDO.", 41 CTL2 (hiz) "General-purpose control signals - Used for user defined control. CTL1 is not powered-down via PDO.", 42 CTL3 (hiz) "General-purpose control signals - Used for user defined control. CTL1 is not powered-down via PDO.", 44 ODCK (hiz) "Output data clock - Pixel clock. All pixel outputs QE[23:0] and QO[23:0] (if in 2-pixel/clock mode) along with DE, HSYNC, VSYNC and CTL[3:1] are synchronized to this clock.", 46 DE (hiz) "Output data enable - Used to indicate time of active video display versus non-active display or blank time. During blank, only HSYNC, VSYNC, and CTL1-3 are transmitted. During times  of active display, or non-blank, only (See Datasheet)", 47 VSYNC (hiz) "Vertical sync output", 48 HSYNC (hiz) "Horizontal sync output", 49 QO0 (hiz) "Odd blue pixel output - Output for odd only blue pixel when in 2-pixel/clock mode. Not used,and held low, when in 1-pixel/clock mode. Output data is synchronized to the output data clock, ODCK", 50 QO1 (hiz) "Odd blue pixel output - Output for odd only blue pixel when in 2-pixel/clock mode. Not used,and held low, when in 1-pixel/clock mode. Output data is synchronized to the output data clock, ODCK", 51 QO2 (hiz) "Odd blue pixel output - Output for odd only blue pixel when in 2-pixel/clock mode. Not used,and held low, when in 1-pixel/clock mode. Output data is synchronized to the output data clock, ODCK", 52 QO3 (hiz) "Odd blue pixel output - Output for odd only blue pixel when in 2-pixel/clock mode. Not used,and held low, when in 1-pixel/clock mode. Output data is synchronized to the output data clock, ODCK", 53 QO4 (hiz) "Odd blue pixel output - Output for odd only blue pixel when in 2-pixel/clock mode. Not used,and held low, when in 1-pixel/clock mode. Output data is synchronized to the output data clock, ODCK", 54 QO5 (hiz) "Odd blue pixel output - Output for odd only blue pixel when in 2-pixel/clock mode. Not used,and held low, when in 1-pixel/clock mode. Output data is synchronized to the output data clock, ODCK", 55 QO6 (hiz) "Odd blue pixel output - Output for odd only blue pixel when in 2-pixel/clock mode. Not used,and held low, when in 1-pixel/clock mode. Output data is synchronized to the output data clock, ODCK", 56 QO7 (hiz) "Odd blue pixel output - Output for odd only blue pixel when in 2-pixel/clock mode. Not used,and held low, when in 1-pixel/clock mode. Output data is synchronized to the output data clock, ODCK", 59 QO8 (hiz) "Odd blue pixel output - Output for odd only blue pixel when in 2-pixel/clock mode. Not used,and held low, when in 1-pixel/clock mode. Output data is synchronized to the output data clock, ODCK", 60 QO9 (hiz) "Odd blue pixel output - Output for odd only blue pixel when in 2-pixel/clock mode. Not used,and held low, when in 1-pixel/clock mode. Output data is synchronized to the output data clock, ODCK", 61 QO10 (hiz) "Odd blue pixel output - Output for odd only blue pixel when in 2-pixel/clock mode. Not used,and held low, when in 1-pixel/clock mode. Output data is synchronized to the output data clock, ODCK", 62 QO11 (hiz) "Odd blue pixel output - Output for odd only blue pixel when in 2-pixel/clock mode. Not used,and held low, when in 1-pixel/clock mode. Output data is synchronized to the output data clock, ODCK", 63 QO12 (hiz) "Odd blue pixel output - Output for odd only blue pixel when in 2-pixel/clock mode. Not used,and held low, when in 1-pixel/clock mode. Output data is synchronized to the output data clock, ODCK", 64 QO13 (hiz) "Odd blue pixel output - Output for odd only blue pixel when in 2-pixel/clock mode. Not used,and held low, when in 1-pixel/clock mode. Output data is synchronized to the output data clock, ODCK", 65 QO14 (hiz) "Odd blue pixel output - Output for odd only blue pixel when in 2-pixel/clock mode. Not used,and held low, when in 1-pixel/clock mode. Output data is synchronized to the output data clock, ODCK", 66 QO15 (hiz) "Odd blue pixel output - Output for odd only blue pixel when in 2-pixel/clock mode. Not used,and held low, when in 1-pixel/clock mode. Output data is synchronized to the output data clock, ODCK", 69 QO16 (hiz) "Odd blue pixel output - Output for odd only blue pixel when in 2-pixel/clock mode. Not used,and held low, when in 1-pixel/clock mode. Output data is synchronized to the output data clock, ODCK", 70 QO17 (hiz) "Odd blue pixel output - Output for odd only blue pixel when in 2-pixel/clock mode. Not used,and held low, when in 1-pixel/clock mode. Output data is synchronized to the output data clock, ODCK", 71 QO18 (hiz) "Odd blue pixel output - Output for odd only blue pixel when in 2-pixel/clock mode. Not used,and held low, when in 1-pixel/clock mode. Output data is synchronized to the output data clock, ODCK", 72 QO19 (hiz) "Odd blue pixel output - Output for odd only blue pixel when in 2-pixel/clock mode. Not used,and held low, when in 1-pixel/clock mode. Output data is synchronized to the output data clock, ODCK", 73 QO20 (hiz) "Odd blue pixel output - Output for odd only blue pixel when in 2-pixel/clock mode. Not used,and held low, when in 1-pixel/clock mode. Output data is synchronized to the output data clock, ODCK", 74 QO21 (hiz) "Odd blue pixel output - Output for odd only blue pixel when in 2-pixel/clock mode. Not used,and held low, when in 1-pixel/clock mode. Output data is synchronized to the output data clock, ODCK", 75 QO22 (hiz) "Odd blue pixel output - Output for odd only blue pixel when in 2-pixel/clock mode. Not used,and held low, when in 1-pixel/clock mode. Output data is synchronized to the output data clock, ODCK", 77 QO23 (hiz) "Odd blue pixel output - Output for odd only blue pixel when in 2-pixel/clock mode. Not used,and held low, when in 1-pixel/clock mode. Output data is synchronized to the output data clock, ODCK", 80 Rx2+ (in) "Channel-2 positive receiver input - Positive side of channel-2 TMDS low voltage signal differential input pair.Channel-2 receives red pixel data in active display and CTL2, CTL3 control signals in blank", 81 Rx2- (in) "Channel-2 negative receiver input - Negative side of channel-2 TMDS low voltage signal differential input pair.Channel-2 receives red pixel data in active display and CTL2, CTL3 control signals in blank", 85 Rx1+ (in) "Channel-1 positive receiver input - Positive side of channel-1 TMDS low voltage signal differential input pair.Channel-1 receives green-pixel data in active display and CTL1 control signals in blank.", 86 Rx1- (in) "Channel-1 negative receiver input - Negative side of channel-1 TMDS low voltage signal differential input pair.", 90 Rx0+ (in) "Channel-0 positive receiver input - Positive side of channel-0. TMDS low voltage signal differential input pair.Channel-0 receives blue pixel data in active display and HSYNC, VSYNC control signals in blank.", 91 Rx0- (in) "Channel-0 negative receiver input - Negative side of channel-0. TMDS low voltage signal differential input pair.", 93 RxC+ (in) "Clock positive receiver input - Positive side of reference clock. TMDS low voltage signal differential input pair.", 94 RxC- (in) "Clock negative receiver input - Negative side of reference clock. TMDS low voltage signal differential input pair.", 96 EXT_RES (in) "Internal impedance matching - The TFP401A is internally optimized for impedance matching at 50 W. An external resistor tied to this pin has no effect on device performance.", 100 OCK_INV (in) "ODCK Polarity - Selects ODCK edge on which pixel data (QE[23:0] and QO[23:0]) and control signals (HSYNC, VSYNC, DE, CTL1-3 ) are latched.Normal Mode:High : Latches output data on rising ODCK edge Low : Latches output data (See Datasheet)"
part B pins: 5 DGND (power) "Digital ground - Ground reference and current return for digital core", 6 DVDD (power) "Digital VDD - Power supply for digital core. Nominally 3.3 V", 18 OVDD (power) "Output driver VDD - Power supply for output drivers. Nominally 3.3 V", 19 OGND (power) "Output driver ground - Ground reference and current return for digital output drivers", 28 OGND (power) "Output driver ground - Ground reference and current return for digital output drivers", 29 OVDD (power) "Output driver VDD - Power supply for output drivers. Nominally 3.3 V", 38 DVDD (power) "Digital VDD - Power supply for digital core. Nominally 3.3 V", 39 DGND (power) "Digital ground - Ground reference and current return for digital core", 43 OVDD (power) "Output driver VDD - Power supply for output drivers. Nominally 3.3 V", 45 OGND (power) "Output driver ground - Ground reference and current return for digital output drivers", 57 OVDD (power) "Output driver VDD - Power supply for output drivers. Nominally 3.3 V", 58 OGND (power) "Output driver ground - Ground reference and current return for digital output drivers", 67 DVDD (power) "Digital VDD - Power supply for digital core. Nominally 3.3 V", 68 DGND (power) "Digital ground - Ground reference and current return for digital core", 76 OGND (power) "Output driver ground - Ground reference and current return for digital output drivers", 78 OVDD (power) "Output driver VDD - Power supply for output drivers. Nominally 3.3 V", 79 AGND (power) "Analog Ground - Ground reference and current return for analog circuitry.", 82 AVDD (power) "Analog VDD - Power supply for analog circuitry. Nominally 3.3 V", 83 AGND (power) "Analog Ground - Ground reference and current return for analog circuitry.", 84 AVDD (power) "Analog VDD - Power supply for analog circuitry. Nominally 3.3 V", 87 AGND (power) "Analog Ground - Ground reference and current return for analog circuitry.", 88 AVDD (power) "Analog VDD - Power supply for analog circuitry. Nominally 3.3 V", 89 AGND (power) "Analog Ground - Ground reference and current return for analog circuitry.", 92 AGND (power) "Analog Ground - Ground reference and current return for analog circuitry.", 95 AVDD (power) "Analog VDD - Power supply for analog circuitry. Nominally 3.3 V", 97 PVDD (power) "PLL VDD - Power supply for internal PLL", 98 PGND (power) "PLL GND - Ground reference and current return for internal PLL", 99 RSVD "Reserved. Must be tied high for normal operation.", 101 EP (power) "Exposed  Pad"